# Altium footprint library 306-031-12.PcbLib: 1 footprints
Each footprint in its own frame and in the unit in brackets; x right, y up, seen from the top. Pads: shape width x height; smd on the part's side, far side on the other; paste and mask are expansions set on the pad; w line width, h text height; cw(c..) or ccw(c..) is an arc to the next point about the centre after c.
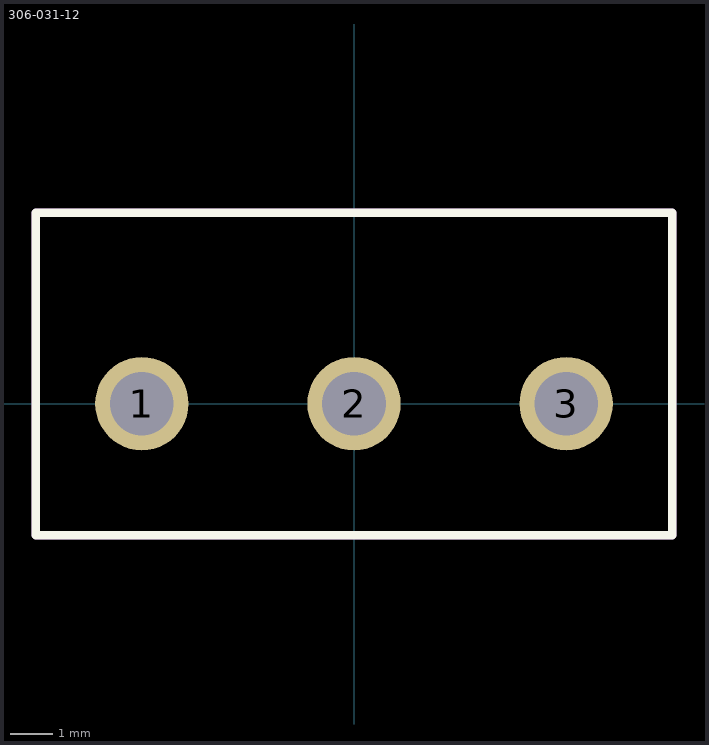
[diagram p0: the footprint, top view; thin cyan lines are the x and y axes]

## 306-031-12 [mm]
height 10
pads (3):
  round 2.2 hole 1.5: 1(-5,0) 2(0,0) 3(5,0)
Top Overlay:
  lines w0.2: -7.5,-3.1 -7.5,4.5 7.5,4.5 7.5,-3.1 -7.5,-3.1
Mechanical 7:
  lines w0.2: -7.5,-3.1 -7.5,4.5 7.5,4.5 7.5,-3.1 -7.5,-3.1
3D body "DG301-5.0-03.stp": height 10, standoff -4.3, extent -8.1,-3.1 7.5,4.5